# EAGLE library part BM10B(0.8)-16DP-0.4V(51) (library con-hirose-dfc)
HEADER
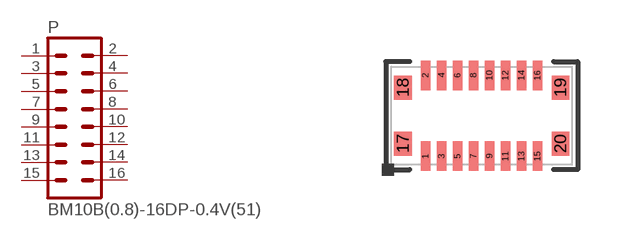
[diagram p3: symbol with the pads of BM10B(0.8)-16DP-0.4V(51); footprint BM10B(0.8)-16DP-0.4V(51)]

Designator prefix P

## BM10B(0.8)-16DP-0.4V(51) (DIGIKEY: H11812TR-ND; P1I: o)  [BM10B(0.8)-16DP-0.4V(51)]
1  1  pas
2  2  pas
3  3  pas
4  4  pas
5  5  pas
6  6  pas
7  7  pas
8  8  pas
9  9  pas
10  10  pas
11  11  pas
12  12  pas
13  13  pas
14  14  pas
15  15  pas
16  16  pas

## Footprint BM10B(0.8)-16DP-0.4V(51) (pad centres in mm)
HEADER 0.4 mm pitch
smd 0.23 x 0.74: 1 -1.4,-1.01; 2 -1.4,1.01; 3 -1,-1.01; 4 -1,1.01; 5 -0.6,-1.01; 6 -0.6,1.01; 7 -0.2,-1.01; 8 -0.2,1.01; 9 0.2,-1.01; 10 0.2,1.01; 11 0.6,-1.01; 12 0.6,1.01; 13 1,-1.01; 14 1,1.01; 15 1.4,-1.01; 16 1.4,1.01
smd 0.44 x 0.59: 17 -1.97,-0.7; 18 -1.97,0.7; 19 1.97,0.7; 20 1.97,-0.7